# Altium schematic symbol library WRIS-RSKS.SchLib: 507 symbols (part 10 of 10)
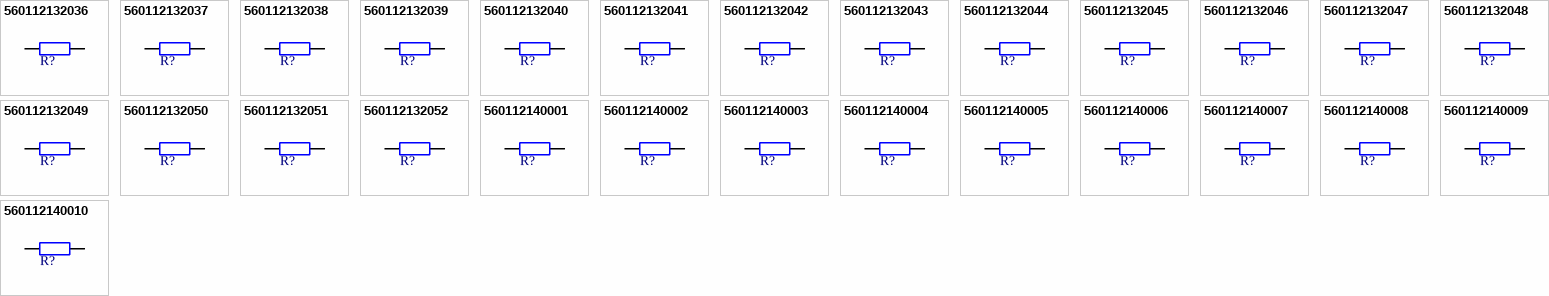
[diagram p21: symbols 560112132036 to 560112140010]

## 560112132051
designator R?, comment 8200Ohm, 250mW  (value not drawn)
WRIS-RSKS Thick Film Resistor, size 1206, 8200Ohm, 250mW; Manufacturer Part Number: 560112132051; Manufacturer: Wurth Elektronik; Case/Size Code: 1206; Limiting Element Voltage: 200V; Resistance Tolerance: +/-5%; Temperature Coefficient of Resistance Min: -100ppm/°C; Temperature Coefficient of Resistance Max: 100ppm/°C; Category: Thick Film Resistors; Match Code: WRIS-RSKS; ComponentLink1Description: Website Link; ComponentLink1URL: https://www.we-online.com/redexpert/article/560112132051?ad; ComponentLink2Description: Datasheet Link; ComponentLink2URL: https://www.we-online.com/redexpert/spec/560112132051?ad; Mount: Surface Mount; Operating Temperature Max: 155°C; Operating Temperature Min: -55°C; Packaging: Tape and Reel; Length: 3.1mm; Width: 1.6mm; Height: 0.6mm; Rated Power: 250mW; Resistance: 8200Ohm
pins: 1, 2

## 560112132052
designator R?, comment 1650000Ohm, 250mW  (value not drawn)
WRIS-RSKS Thick Film Resistor, size 1206, 1650000Ohm, 250mW; Manufacturer Part Number: 560112132052; Manufacturer: Wurth Elektronik; Case/Size Code: 1206; Limiting Element Voltage: 200V; Resistance Tolerance: +/-1%; Temperature Coefficient of Resistance Min: -200ppm/°C; Temperature Coefficient of Resistance Max: 200ppm/°C; Category: Thick Film Resistors; Match Code: WRIS-RSKS; ComponentLink1Description: Website Link; ComponentLink1URL: https://www.we-online.com/redexpert/article/560112132052?ad; ComponentLink2Description: Datasheet Link; ComponentLink2URL: https://www.we-online.com/redexpert/spec/560112132052?ad; Mount: Surface Mount; Operating Temperature Max: 155°C; Operating Temperature Min: -55°C; Packaging: Tape and Reel; Length: 3.1mm; Width: 1.6mm; Height: 0.6mm; Rated Power: 250mW; Resistance: 1650000Ohm
pins: 1, 2

## 560112140001
designator R?, comment 4700Ohm, 500mW  (value not drawn)
WRIS-RSKS Thick Film Resistor, size 1210, 4700Ohm, 500mW; Manufacturer Part Number: 560112140001; Manufacturer: Wurth Elektronik; Case/Size Code: 1210; Limiting Element Voltage: 200V; Resistance Tolerance: +/-5%; Temperature Coefficient of Resistance Min: -100ppm/°C; Temperature Coefficient of Resistance Max: 100ppm/°C; Category: Thick Film Resistors; Match Code: WRIS-RSKS; ComponentLink1Description: Website Link; ComponentLink1URL: https://www.we-online.com/redexpert/article/560112140001?ad; ComponentLink2Description: Datasheet Link; ComponentLink2URL: https://www.we-online.com/redexpert/spec/560112140001?ad; Mount: Surface Mount; Operating Temperature Max: 155°C; Operating Temperature Min: -55°C; Packaging: Tape and Reel; Length: 3.1mm; Width: 2.6mm; Height: 0.55mm; Rated Power: 500mW; Resistance: 4700Ohm
pins: 1, 2

## 560112140002
designator R?, comment 100000Ohm, 500mW  (value not drawn)
WRIS-RSKS Thick Film Resistor, size 1210, 100000Ohm, 500mW; Manufacturer Part Number: 560112140002; Manufacturer: Wurth Elektronik; Case/Size Code: 1210; Limiting Element Voltage: 200V; Resistance Tolerance: +/-5%; Temperature Coefficient of Resistance Min: -100ppm/°C; Temperature Coefficient of Resistance Max: 100ppm/°C; Category: Thick Film Resistors; Match Code: WRIS-RSKS; ComponentLink1Description: Website Link; ComponentLink1URL: https://www.we-online.com/redexpert/article/560112140002?ad; ComponentLink2Description: Datasheet Link; ComponentLink2URL: https://www.we-online.com/redexpert/spec/560112140002?ad; Mount: Surface Mount; Operating Temperature Max: 155°C; Operating Temperature Min: -55°C; Packaging: Tape and Reel; Length: 3.1mm; Width: 2.6mm; Height: 0.55mm; Rated Power: 500mW; Resistance: 100000Ohm
pins: 1, 2

## 560112140003
designator R?, comment 80600Ohm, 500mW  (value not drawn)
WRIS-RSKS Thick Film Resistor, size 1210, 80600Ohm, 500mW; Manufacturer Part Number: 560112140003; Manufacturer: Wurth Elektronik; Case/Size Code: 1210; Limiting Element Voltage: 200V; Resistance Tolerance: +/-1%; Temperature Coefficient of Resistance Min: -100ppm/°C; Temperature Coefficient of Resistance Max: 100ppm/°C; Category: Thick Film Resistors; Match Code: WRIS-RSKS; ComponentLink1Description: Website Link; ComponentLink1URL: https://www.we-online.com/redexpert/article/560112140003?ad; ComponentLink2Description: Datasheet Link; ComponentLink2URL: https://www.we-online.com/redexpert/spec/560112140003?ad; Mount: Surface Mount; Operating Temperature Max: 155°C; Operating Temperature Min: -55°C; Packaging: Tape and Reel; Length: 3.1mm; Width: 2.6mm; Height: 0.55mm; Rated Power: 500mW; Resistance: 80600Ohm
pins: 1, 2

## 560112140004
designator R?, comment 47000Ohm, 500mW  (value not drawn)
WRIS-RSKS Thick Film Resistor, size 1210, 47000Ohm, 500mW; Manufacturer Part Number: 560112140004; Manufacturer: Wurth Elektronik; Case/Size Code: 1210; Limiting Element Voltage: 200V; Resistance Tolerance: +/-5%; Temperature Coefficient of Resistance Min: -100ppm/°C; Temperature Coefficient of Resistance Max: 100ppm/°C; Category: Thick Film Resistors; Match Code: WRIS-RSKS; ComponentLink1Description: Website Link; ComponentLink1URL: https://www.we-online.com/redexpert/article/560112140004?ad; ComponentLink2Description: Datasheet Link; ComponentLink2URL: https://www.we-online.com/redexpert/spec/560112140004?ad; Mount: Surface Mount; Operating Temperature Max: 155°C; Operating Temperature Min: -55°C; Packaging: Tape and Reel; Length: 3.1mm; Width: 2.6mm; Height: 0.55mm; Rated Power: 500mW; Resistance: 47000Ohm
pins: 1, 2

## 560112140005
designator R?, comment 39000Ohm, 500mW  (value not drawn)
WRIS-RSKS Thick Film Resistor, size 1210, 39000Ohm, 500mW; Manufacturer Part Number: 560112140005; Manufacturer: Wurth Elektronik; Case/Size Code: 1210; Limiting Element Voltage: 200V; Resistance Tolerance: +/-1%; Temperature Coefficient of Resistance Min: -100ppm/°C; Temperature Coefficient of Resistance Max: 100ppm/°C; Category: Thick Film Resistors; Match Code: WRIS-RSKS; ComponentLink1Description: Website Link; ComponentLink1URL: https://www.we-online.com/redexpert/article/560112140005?ad; ComponentLink2Description: Datasheet Link; ComponentLink2URL: https://www.we-online.com/redexpert/spec/560112140005?ad; Mount: Surface Mount; Operating Temperature Max: 155°C; Operating Temperature Min: -55°C; Packaging: Tape and Reel; Length: 3.1mm; Width: 2.6mm; Height: 0.55mm; Rated Power: 500mW; Resistance: 39000Ohm
pins: 1, 2

## 560112140006
designator R?, comment 200000Ohm, 500mW  (value not drawn)
WRIS-RSKS Thick Film Resistor, size 1210, 200000Ohm, 500mW; Manufacturer Part Number: 560112140006; Manufacturer: Wurth Elektronik; Case/Size Code: 1210; Limiting Element Voltage: 200V; Resistance Tolerance: +/-5%; Temperature Coefficient of Resistance Min: -100ppm/°C; Temperature Coefficient of Resistance Max: 100ppm/°C; Category: Thick Film Resistors; Match Code: WRIS-RSKS; ComponentLink1Description: Website Link; ComponentLink1URL: https://www.we-online.com/redexpert/article/560112140006?ad; ComponentLink2Description: Datasheet Link; ComponentLink2URL: https://www.we-online.com/redexpert/spec/560112140006?ad; Mount: Surface Mount; Operating Temperature Max: 155°C; Operating Temperature Min: -55°C; Packaging: Tape and Reel; Length: 3.1mm; Width: 2.6mm; Height: 0.55mm; Rated Power: 500mW; Resistance: 200000Ohm
pins: 1, 2

## 560112140007
designator R?, comment 2200Ohm, 500mW  (value not drawn)
WRIS-RSKS Thick Film Resistor, size 1210, 2200Ohm, 500mW; Manufacturer Part Number: 560112140007; Manufacturer: Wurth Elektronik; Case/Size Code: 1210; Limiting Element Voltage: 200V; Resistance Tolerance: +/-5%; Temperature Coefficient of Resistance Min: -100ppm/°C; Temperature Coefficient of Resistance Max: 100ppm/°C; Category: Thick Film Resistors; Match Code: WRIS-RSKS; ComponentLink1Description: Website Link; ComponentLink1URL: https://www.we-online.com/redexpert/article/560112140007?ad; ComponentLink2Description: Datasheet Link; ComponentLink2URL: https://www.we-online.com/redexpert/spec/560112140007?ad; Mount: Surface Mount; Operating Temperature Max: 155°C; Operating Temperature Min: -55°C; Packaging: Tape and Reel; Length: 3.1mm; Width: 2.6mm; Height: 0.55mm; Rated Power: 500mW; Resistance: 2200Ohm
pins: 1, 2

## 560112140008
designator R?, comment 220Ohm, 500mW  (value not drawn)
WRIS-RSKS Thick Film Resistor, size 1210, 220Ohm, 500mW; Manufacturer Part Number: 560112140008; Manufacturer: Wurth Elektronik; Case/Size Code: 1210; Limiting Element Voltage: 200V; Resistance Tolerance: +/-5%; Temperature Coefficient of Resistance Min: -100ppm/°C; Temperature Coefficient of Resistance Max: 100ppm/°C; Category: Thick Film Resistors; Match Code: WRIS-RSKS; ComponentLink1Description: Website Link; ComponentLink1URL: https://www.we-online.com/redexpert/article/560112140008?ad; ComponentLink2Description: Datasheet Link; ComponentLink2URL: https://www.we-online.com/redexpert/spec/560112140008?ad; Mount: Surface Mount; Operating Temperature Max: 155°C; Operating Temperature Min: -55°C; Packaging: Tape and Reel; Length: 3.1mm; Width: 2.6mm; Height: 0.55mm; Rated Power: 500mW; Resistance: 220Ohm
pins: 1, 2

## 560112140009
designator R?, comment 120Ohm, 500mW  (value not drawn)
WRIS-RSKS Thick Film Resistor, size 1210, 120Ohm, 500mW; Manufacturer Part Number: 560112140009; Manufacturer: Wurth Elektronik; Case/Size Code: 1210; Limiting Element Voltage: 200V; Resistance Tolerance: +/-5%; Temperature Coefficient of Resistance Min: -100ppm/°C; Temperature Coefficient of Resistance Max: 100ppm/°C; Category: Thick Film Resistors; Match Code: WRIS-RSKS; ComponentLink1Description: Website Link; ComponentLink1URL: https://www.we-online.com/redexpert/article/560112140009?ad; ComponentLink2Description: Datasheet Link; ComponentLink2URL: https://www.we-online.com/redexpert/spec/560112140009?ad; Mount: Surface Mount; Operating Temperature Max: 155°C; Operating Temperature Min: -55°C; Packaging: Tape and Reel; Length: 3.1mm; Width: 2.6mm; Height: 0.55mm; Rated Power: 500mW; Resistance: 120Ohm
pins: 1, 2

## 560112140010
designator R?, comment 330mW  (value not drawn)
WRIS-RSKS Thick Film Resistor, size 1210, 330mW; Manufacturer Part Number: 560112140010; Manufacturer: Wurth Elektronik; Case/Size Code: 1210; Category: Thick Film Resistors; Match Code: WRIS-RSKS; ComponentLink1Description: Website Link; ComponentLink1URL: https://www.we-online.com/redexpert/article/560112140010?ad; ComponentLink2Description: Datasheet Link; ComponentLink2URL: https://www.we-online.com/redexpert/spec/560112140010?ad; Mount: Surface Mount; Operating Temperature Max: 155°C; Operating Temperature Min: -55°C; Packaging: Tape and Reel; Length: 3.1mm; Width: 2.6mm; Height: 0.55mm; Rated Power: 330mW
pins: 1, 2